# Altium footprint library WWOL.PcbLib: 20 footprints (part 1 of 2)
Each footprint in its own frame and in the unit in brackets; x right, y up, seen from the top. Pads: shape width x height; smd on the part's side, far side on the other; paste and mask are expansions set on the pad; w line width, h text height; cw(c..) or ccw(c..) is an arc to the next point about the centre after c.
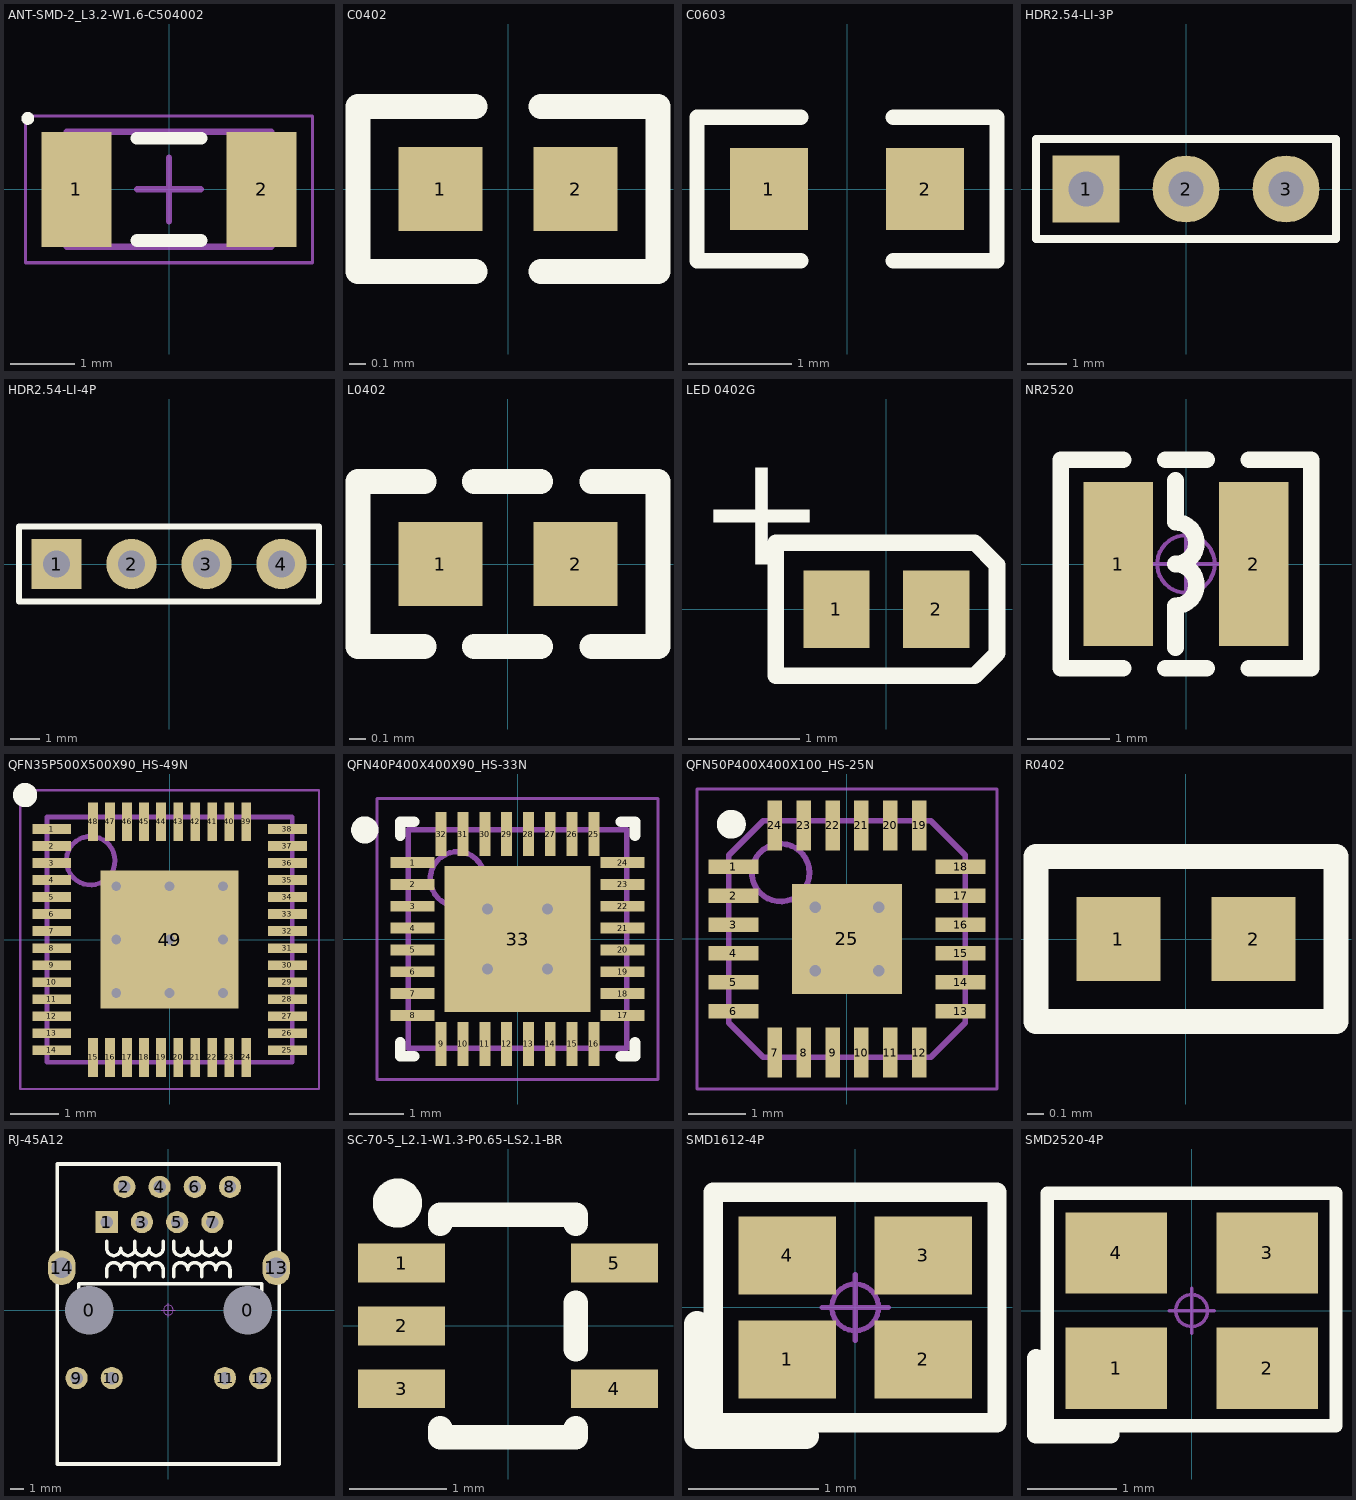
[diagram p0: the footprints below, top view; thin cyan lines are the x and y axes]

## ANT-SMD-2_L3.2-W1.6-C504002 [mm]
pads (2):
  rect 1.1x1.8 smd: 1(-1.45,0) 2(1.45,0)
Top Overlay:
  circle w0.1: c-2.212,1.112 r0.05
  lines w0.2: -0.5,-0.8 0.5,-0.8 ; -0.5,0.8 0.5,0.8
Mechanical 13:
  lines w0.1: -1.6,-0.9 -1.6,0.9 1.6,0.9 1.6,-0.9 -1.6,-0.9
Mechanical 15:
  lines w0.05: -2.25,-1.15 -2.25,1.15 2.25,1.15 2.25,-1.15 -2.25,-1.15
  lines w0.1: -0.5,0 0.5,0 ; 0,-0.5 0,0.5
3D body: height 1.2, standoff 0, extent -0.969,-0.08 -0.426,0.212
3D body: height 1.2, standoff 0, extent -1.1,-0.9 1.1,0.9
3D body: height 1.2, standoff 0, extent -1.6,-0.9 -1.1,0.9
3D body: height 1.2, standoff 0, extent 1.1,-0.9 1.6,0.9

## C0402 [mm]
pads (2):
  rect 0.51x0.51 smd: 1(-0.41,0) 2(0.41,0)
Top Overlay:
  lines w0.15: -0.2,-0.5 -0.91,-0.5 -0.91,0.5 -0.2,0.5 ; 0.2,-0.5 0.91,-0.5 0.91,0.5 0.2,0.5
3D body "C 0402.STEP": height 0.53, standoff 0.01, extent -0.5,-0.26 0.5,0.26

## C0603 [mm]
pads (2):
  rect 0.76x0.8 smd: 1(-0.76,0) 2(0.76,0)
Top Overlay:
  lines w0.15: -0.45,-0.7 -1.46,-0.7 -1.46,0.7 -0.45,0.7 ; 0.45,-0.7 1.46,-0.7 1.46,0.7 0.45,0.7
3D body "C 0603.STEP": height 0.81, standoff -0.01, extent -0.8,-0.41 0.8,0.41

## HDR2.54-LI-3P [mm] "排针，3脚"
pads (3):
  rect 1.7x1.7 hole 0.9: 1(-2.54,0)
  round 1.7 hole 0.9: 2(0,0) 3(2.54,0)
Top Overlay:
  lines w0.2: -3.81,-1.27 -3.81,1.27 3.81,1.27 3.81,-1.27 -3.81,-1.27
3D body "HDR2.54-1P.STEP": height 8.5, standoff -3, extent 1.27,-1.27 3.81,1.27
3D body "HDR2.54-1P.STEP": height 8.5, standoff -3, extent -1.27,-1.27 1.27,1.27
3D body "HDR2.54-1P.STEP": height 8.5, standoff -3, extent -3.81,-1.27 -1.27,1.27

## HDR2.54-LI-4P [mm] "排针，4脚"
pads (4):
  rect 1.7x1.7 hole 0.9: 1(-3.81,0)
  round 1.7 hole 0.9: 2(-1.27,0) 3(1.27,0) 4(3.81,0)
Top Overlay:
  lines w0.2: -5.08,-1.27 5.08,-1.27 5.08,1.27 -5.08,1.27 -5.08,-1.27
3D body "HDR2.54-1P.STEP": height 8.5, standoff -3, extent 2.54,-1.27 5.08,1.27
3D body "HDR2.54-1P.STEP": height 8.5, standoff -3, extent 0,-1.27 2.54,1.27
3D body "HDR2.54-1P.STEP": height 8.5, standoff -3, extent -2.54,-1.27 0,1.27
3D body "HDR2.54-1P.STEP": height 8.5, standoff -3, extent -5.08,-1.27 -2.54,1.27

## L0402 [mm]
pads (2):
  rect 0.51x0.51 smd: 1(-0.41,0) 2(0.41,0)
Top Overlay:
  lines w0.15: -0.508,-0.5 -0.91,-0.5 -0.91,0.5 -0.508,0.5 ; -0.204,-0.5 0.198,-0.5 ; -0.204,0.5 0.198,0.5 ; 0.508,-0.5 0.91,-0.5 0.91,0.5 0.508,0.5
3D body "0402.STEP": height 0.5, standoff 0, extent -0.5,-0.25 0.5,0.25

## LED 0402G [mm]
pads (2):
  rect 0.6x0.7 smd: 1(-0.45,0) 2(0.45,0)
Top Overlay:
  lines w0.15: -1,-0.6 0.8,-0.6 1,-0.4 1,0.4 0.8,0.6 -1,0.6 -1,-0.6
  text "+" at -1.71,0.4 h1.02
3D body "LED 0603玻璃罩.": height 0, standoff 0, extent 0,0 0,0
3D body "LED 0603-G.STEP": height 0.47, standoff 0, extent -0.8,-0.401 0.8,0.401

## NR2520 [mm] "2.5mm*2.0mm*1.0mm(长*宽*高）"
pads (2):
  rect 0.85x2 smd: 1(-0.825,0) 2(0.825,0)
Top Overlay:
  lines w0.203: -0.762,-1.27 -1.524,-1.27 -1.524,1.27 -0.762,1.27 ; -0.254,-1.27 0.254,-1.27 ; -0.254,1.27 0.254,1.27 ; -0.127,-1.016 -0.127,-0.508 ccw(c-0.127,-0.254) -0.127,0 ccw(c-0.127,0.254) -0.127,0.508 -0.127,1.016 ; 0.762,-1.27 1.524,-1.27 1.524,1.27 0.762,1.27
Mechanical 15:
  circle w0.05: c0,0 r0.35
  lines w0.05: -0.5,0 0.5,0 ; 0,-0.5 0,0.5
3D body "NR2520.STEP": height 1.1, standoff 0, extent -1.25,-1 1.25,1

## QFN35P500X500X90_HS-49N [mm] "QFN, 48-Leads, Body 5.00x5.00mm, Pitch 0.35mm, Thermal Pad 3.70x3.70mm, IPC Medium Density"
height 0.9
pads (49):
  rect 0.8x0.2 smd mask+0.05: 1(-2.425,2.275) 2(-2.425,1.925) 3(-2.425,1.575) 4(-2.425,1.225) 5(-2.425,0.875) 6(-2.425,0.525) 7(-2.425,0.175) 8(-2.425,-0.175) 9(-2.425,-0.525) 10(-2.425,-0.875) 11(-2.425,-1.225) 12(-2.425,-1.575) 13(-2.425,-1.925) 14(-2.425,-2.275) 25(2.425,-2.275) 26(2.425,-1.925) 27(2.425,-1.575) 28(2.425,-1.225) 29(2.425,-0.875) 30(2.425,-0.525) 31(2.425,-0.175) 32(2.425,0.175) 33(2.425,0.525) 34(2.425,0.875) 35(2.425,1.225) 36(2.425,1.575) 37(2.425,1.925) 38(2.425,2.275)
  rect 0.2x0.8 smd mask+0.05: 15(-1.575,-2.425) 16(-1.225,-2.425) 17(-0.875,-2.425) 18(-0.525,-2.425) 19(-0.175,-2.425) 20(0.175,-2.425) 21(0.525,-2.425) 22(0.875,-2.425) 23(1.225,-2.425) 24(1.575,-2.425) 39(1.575,2.425) 40(1.225,2.425) 41(0.875,2.425) 42(0.525,2.425) 43(0.175,2.425) 44(-0.175,2.425) 45(-0.525,2.425) 46(-0.875,2.425) 47(-1.225,2.425) 48(-1.575,2.425)
  rect 2.845x2.845 smd mask+0.05: 49(0,0)
via 1.1,-1.1 diameter 0.5 hole 0.2
via 0,-1.1 diameter 0.5 hole 0.2
via -1.1,-1.1 diameter 0.5 hole 0.2
via 1.1,0 diameter 0.5 hole 0.2
via 0,0 diameter 0.5 hole 0.2
via -1.1,0 diameter 0.5 hole 0.2
via 1.1,1.1 diameter 0.5 hole 0.2
via 0,1.1 diameter 0.5 hole 0.2
via -1.1,1.1 diameter 0.5 hole 0.2
Top Overlay:
  circle w0.25: c-2.975,2.975 r0.125
Mechanical 13:
  circle w0.1: c-1.625,1.625 r0.5
  lines w0.1: -2.525,-2.525 2.525,-2.525 2.525,2.525 -2.525,2.525 -2.525,-2.525
Mechanical 15:
  lines w0.05: -3.075,-3.075 3.075,-3.075 3.075,3.075 -3.075,3.075 -3.075,-3.075
  lines w0.1: -0.5,0 0.5,0 ; 0,-0.5 0,0.5
3D body: height 0.9, standoff 0, extent -2.525,-2.525 2.525,2.525

## QFN40P400X400X90_HS-33N [mm] "QFN, 32-Leads, Body 4.00x4.00mm, Pitch 0.40mm, Thermal Pad 2.68x2.68mm, IPC Medium Density"
height 0.9
pads (33):
  rect 0.8x0.2 smd mask+0.05: 1(-1.925,1.4) 2(-1.925,1) 3(-1.925,0.6) 4(-1.925,0.2) 5(-1.925,-0.2) 6(-1.925,-0.6) 7(-1.925,-1) 8(-1.925,-1.4) 17(1.925,-1.4) 18(1.925,-1) 19(1.925,-0.6) 20(1.925,-0.2) 21(1.925,0.2) 22(1.925,0.6) 23(1.925,1) 24(1.925,1.4)
  rect 0.2x0.8 smd mask+0.05: 9(-1.4,-1.925) 10(-1,-1.925) 11(-0.6,-1.925) 12(-0.2,-1.925) 13(0.2,-1.925) 14(0.6,-1.925) 15(1,-1.925) 16(1.4,-1.925) 25(1.4,1.925) 26(1,1.925) 27(0.6,1.925) 28(0.2,1.925) 29(-0.2,1.925) 30(-0.6,1.925) 31(-1,1.925) 32(-1.4,1.925)
  rect 2.68x2.68 smd mask+0.05: 33(0,0)
via -0.55,0.55 diameter 0.5 hole 0.2
via 0.55,0.55 diameter 0.5 hole 0.2
via -0.55,-0.55 diameter 0.5 hole 0.2
via 0.55,-0.55 diameter 0.5 hole 0.2
Top Overlay:
  circle w0.25: c-2.8,2 r0.125
  lines w0.2: -2.15,-1.9 -2.15,-2.15 -1.9,-2.15 ; -2.15,1.9 -2.15,2.15 -1.9,2.15 ; 1.9,-2.15 2.15,-2.15 2.15,-1.9 ; 1.9,2.15 2.15,2.15 2.15,1.9
Mechanical 13:
  circle w0.1: c-1.1,1.1 r0.5
  lines w0.1: -2,-2 -2,2 2,2 2,-2 -2,-2
Mechanical 15:
  lines w0.05: -2.575,-2.575 -2.575,2.575 2.575,2.575 2.575,-2.575 -2.575,-2.575
  lines w0.1: -0.5,0 0.5,0 ; 0,-0.5 0,0.5
3D body: height 0.9, standoff 0, extent -2,-2 2,2

## QFN50P400X400X100_HS-25N [mm] "QFN, 24-Leads, Body 4.00x4.00mm, Pitch 0.50mm, Thermal Pad 2.50x2.50mm, IPC Medium Density"
height 1
pads (25):
  rect 0.864x0.25 smd mask+0.05: 1(-1.969,1.25) 2(-1.969,0.75) 3(-1.969,0.25) 4(-1.969,-0.25) 5(-1.969,-0.75) 6(-1.969,-1.25) 13(1.969,-1.25) 14(1.969,-0.75) 15(1.969,-0.25) 16(1.969,0.25) 17(1.969,0.75) 18(1.969,1.25)
  rect 0.25x0.864 smd mask+0.05: 7(-1.25,-1.969) 8(-0.75,-1.969) 9(-0.25,-1.969) 10(0.25,-1.969) 11(0.75,-1.969) 12(1.25,-1.969) 19(1.25,1.969) 20(0.75,1.969) 21(0.25,1.969) 22(-0.25,1.969) 23(-0.75,1.969) 24(-1.25,1.969)
  rect 1.905x1.905 smd mask+0.05: 25(0,0)
via -0.55,0.55 diameter 0.5 hole 0.2
via 0.55,0.55 diameter 0.5 hole 0.2
via -0.55,-0.55 diameter 0.5 hole 0.2
via 0.55,-0.55 diameter 0.5 hole 0.2
Top Overlay:
  circle w0.25: c-2.004,1.989 r0.125
Mechanical 13:
  circle w0.1: c-1.15,1.15 r0.5
  lines w0.1: -2.05,-1.45 -1.45,-2.05 1.45,-2.05 2.05,-1.45 2.05,1.45 1.45,2.05 -1.45,2.05 -2.05,1.45 -2.05,-1.45
Mechanical 15:
  lines w0.05: -2.6,-2.6 -2.6,2.6 2.6,2.6 2.6,-2.6 -2.6,-2.6
  lines w0.1: -0.5,0 0.5,0 ; 0,-0.5 0,0.5
3D body: height 1, standoff 0, extent -2.05,-2.05 2.05,2.05

## R0402 [mm]
pads (2):
  rect 0.51x0.51 smd: 1(-0.41,0) 2(0.41,0)
Top Overlay:
  lines w0.15: -0.91,-0.5 -0.91,0.5 0.91,0.5 0.91,-0.5 -0.91,-0.5
3D body "R 0402.STEP": height 0.3, standoff 0, extent -0.5,-0.25 0.5,0.25

## RJ-45A12 [mil] "网线接口"
pads (16):
  round 130 hole 137.8: 0(-225,0) 0(225,0)
  rect 63x63 hole 35.43: 1(-175,250)
  round 63 hole 35.43: 2(-125,350) 3(-75,250) 4(-25,350) 5(25,250) 6(75,350) 7(125,250) 8(175,350) 9(-260.83,-192.91) 10(-160.83,-192.91) 11(160.82,-192.91) 12(260.82,-192.91)
  oval 78.74x98.43 hole 59.06: 13(306.49,120.08) 14(-302.96,120.08)
Top Overlay:
  lines w10: -255,55 -255,75 265,75 265,55 ; -175,95 -175,115 cw(c-155,115) -135,115 cw(c-115,115) -95,115 ; -175,195 -175,175 ccw(c-155,175) -135,175 ccw(c-115,175) -95,175 ; -95,95 -95,115 ; -95,195 -95,175 ; -15,95 -15,115 ccw(c-35,115) -55,115 ccw(c-75,115) -95,115 ; -15,195 -15,175 cw(c-35,175) -55,175 cw(c-75,175) -95,175 ; 15,95 15,115 cw(c35,115) 55,115 cw(c75,115) 95,115 ; 15,195 15,175 ccw(c35,175) 55,175 ccw(c75,175) 95,175 ; 95,95 95,115 ; 95,195 95,175 ; 175,95 175,115 ccw(c155,115) 135,115 ccw(c115,115) 95,115 ; 175,195 175,175 cw(c155,175) 135,175 cw(c115,175) 95,175 ; -315,-437.01 315,-437.01 315,415 -315,415 -315,-437.01
Mechanical 15:
  circle w1.97: c0,0 r13.78
  lines w1.97: -19.68,0 19.68,0 ; 0,-19.68 0,19.68
3D body "HanRun-HR911105A.STEP": height 103.06, standoff -546.55, extent -313.83,-430.18 311.37,412.34

## SC-70-5_L2.1-W1.3-P0.65-LS2.1-BR [mm]
pads (5):
  rect 0.9x0.4 smd: 1(-1.1,0.65) 2(-1.1,0) 3(-1.1,-0.65) 4(1.1,-0.65) 5(1.1,0.65)
Top Overlay:
  circle w0.254: c-1.143,1.27 r0.127
  lines w0.254: -0.7,-1.058 -0.7,-1.15 0.7,-1.15 0.7,-1.058 ; -0.7,1.058 -0.7,1.15 0.7,1.15 0.7,1.058 ; 0.7,-0.242 0.7,0.242
3D body "444.STEP": height 1, standoff 0, extent -1.049,-0.999 1.049,0.999

## SMD1612-4P [mm] "1.6*1.2*0.35mm（长宽高）"
pads (4):
  rect 0.75x0.6 smd mask+0.05: 1(-0.525,-0.4) 2(0.525,-0.4) 3(0.525,0.4) 4(-0.525,0.4)
Top Overlay:
  lines w0.15: -1.092,-0.889 1.092,-0.889 1.092,0.889 -1.092,0.889 -1.092,-0.889
  lines w0.2: -1.219,-0.991 -0.381,-0.991 ; -1.219,-0.965 -1.219,-0.127
Mechanical 15:
  circle w0.04: c0,0 r0.18
  lines w0.04: -0.254,0 0.254,0 ; 0,-0.254 0,0.254
3D body "OSC 1612-4.STEP": height 0.35, standoff -0.02, extent -0.8,-0.6 0.8,0.6

## SMD2520-4P [mm] "2*2.5*0.55mm(长宽高)"
pads (4):
  rect 1.143x0.914 smd mask+0.064: 1(-0.85,-0.65) 2(0.85,-0.65) 3(0.85,0.65) 4(-0.85,0.65)
Top Overlay:
  lines w0.15: -1.626,-1.295 -1.626,1.321 1.626,1.321 1.626,-1.295 -1.626,-1.295
  lines w0.2: -1.753,-1.397 -0.914,-1.397 ; -1.753,-1.372 -1.753,-0.533
Mechanical 15:
  circle w0.04: c0,0 r0.18
  lines w0.04: -0.254,0 0.254,0 ; 0,-0.254 0,0.254
3D body "OSC 2025-4.STEP": height 0.55, standoff -0.02, extent -1.25,-1 1.25,1